# Altium footprint library IC_Texas_Instruments_TPSM84A21MOJR_eec_0.PcbLib: 1 footprints
Each footprint in its own frame and in the unit in brackets; x right, y up, seen from the top. Pads: shape width x height; smd on the part's side, far side on the other; paste and mask are expansions set on the pad; w line width, h text height; cw(c..) or ccw(c..) is an arc to the next point about the centre after c.
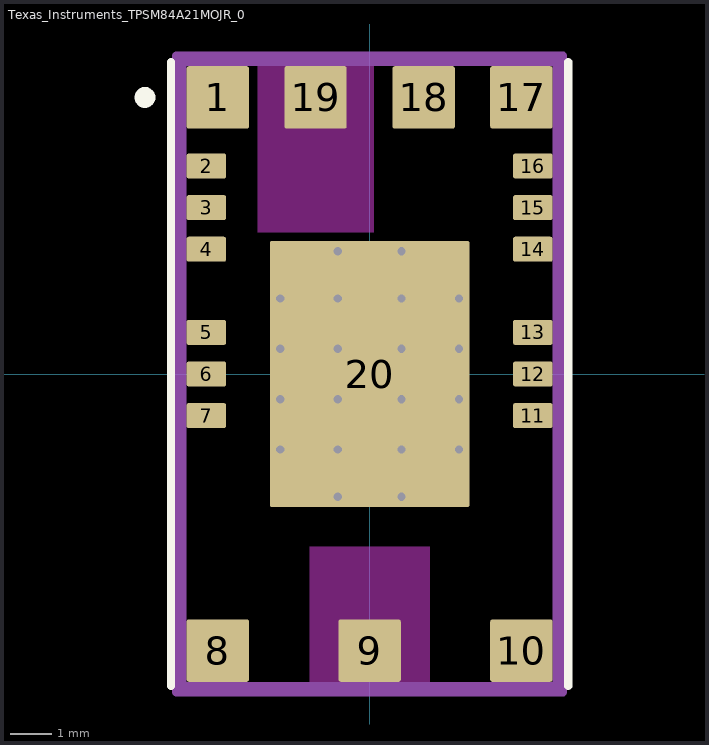
[diagram p0: the footprint, top view; thin cyan lines are the x and y axes]

## Texas_Instruments_TPSM84A21MOJR_0 [mm]
pads (20):
  rrect7% 1.5x1.5 smd paste-1000 mask+0: 1(-3.65,6.65) 8(-3.65,-6.65) 9(0,-6.65) 10(3.65,-6.65) 17(3.65,6.65) 18(1.3,6.65) 19(-1.3,6.65)
  rrect17% 0.95x0.6 smd paste-1000 mask+0: 2(-3.925,5) 3(-3.925,4) 4(-3.925,3) 5(-3.925,1) 6(-3.925,0) 7(-3.925,-1) 11(3.925,-1) 12(3.925,0) 13(3.925,1) 14(3.925,3) 15(3.925,4) 16(3.925,5)
  rrect2% 4.8x6.4 smd paste-1000 mask+0: 20(0,0)
via -0.765,-2.95 diameter 0.5 hole 0.2
via 0.765,-2.95 diameter 0.5 hole 0.2
via -0.765,2.95 diameter 0.5 hole 0.2
via 0.765,2.95 diameter 0.5 hole 0.2
via 2.15,0.605 diameter 0.5 hole 0.2
via -2.15,0.605 diameter 0.5 hole 0.2
via 2.15,1.815 diameter 0.5 hole 0.2
via -2.15,1.815 diameter 0.5 hole 0.2
via -0.765,1.815 diameter 0.5 hole 0.2
via 0.765,1.815 diameter 0.5 hole 0.2
via -0.765,0.605 diameter 0.5 hole 0.2
via 0.765,0.605 diameter 0.5 hole 0.2
via -0.765,-0.605 diameter 0.5 hole 0.2
via 0.765,-0.605 diameter 0.5 hole 0.2
via -0.765,-1.815 diameter 0.5 hole 0.2
via 0.765,-1.815 diameter 0.5 hole 0.2
via 2.15,-1.815 diameter 0.5 hole 0.2
via -2.15,-1.815 diameter 0.5 hole 0.2
via 2.15,-0.605 diameter 0.5 hole 0.2
via -2.15,-0.605 diameter 0.5 hole 0.2
Top Overlay:
  circle w0.25: c-5.4,6.65 r0.125
  lines w0.2: -4.775,-7.5 -4.775,7.5 ; 4.775,-7.5 4.775,7.5
Top Paste:
  drawing of 34 lines, arcs and shapes, not listed
Keep-Out Layer:
  rectangle: -1.45,-7.4 1.45,-4.15
  rectangle: -2.7,3.4 0.1,7.4
Mechanical 10:
  lines w0.2: -4.65,-7.65 4.65,-7.65 4.65,7.65 -4.65,7.65 -4.65,-7.65
  text ".Designator" at 0,0.188 h1
Mechanical 12:
  lines w0.2: -4.5,-7.5 4.5,-7.5 4.5,7.5 -4.5,7.5 -4.5,-7.5
Mechanical 15:
  lines w0.1: -1.395,0 1.395,0 ; 0,-1.395 0,1.395 ; -0.5,0 0.5,0 -0.5,0 ; 0,-0.5 0,0.5 0,-0.5
  lines w0.2: -4.65,-7.65 4.65,-7.65 4.65,7.65 -4.65,7.65 -4.65,-7.65
3D body "IC_Texas_Instruments_TPSM84A21MOJR_eec.STEP": height 0.25, standoff 0, extent -4.65,-7.65 4.65,7.65